# Altium schematic symbol library 74437356022.SchLib: 1 symbol
Pins are listed as number, name and electrical type; pins without a type are passive.

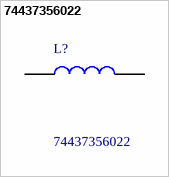
[diagram p0: symbol 74437356022]

## 74437356022
designator L?
WE-LHMI SMT Power Inductor Size 8030; L = 2.2 H ; IR = 8,5 A; Isat = 19,6 A; RDC = 20.30 m; Manufacturer_Name: Wurth Elektronik; Geometry.Height: 3mm; Mouser Part Number: 710-74437356022; Mouser Price/Stock: https://www.mouser.co.uk/ProductDetail/Wurth-Elektronik/74437356022?qs=HXx4m3XcTe2b%252BsXYO2M55w%3D%3D; Manufacturer_Part_Number: 74437356022; Datasheet Link: https://www.we-online.com/catalog/datasheet/74437356022.pdf
footprint INDPM9785X300N
pins: 1, 2